# Altium footprint library AUDIO-SMD_PJ-328-5A2.PcbLib: 1 footprints
Each footprint in its own frame and in the unit in brackets; x right, y up, seen from the top. Pads: shape width x height; smd on the part's side, far side on the other; paste and mask are expansions set on the pad; w line width, h text height; cw(c..) or ccw(c..) is an arc to the next point about the centre after c.
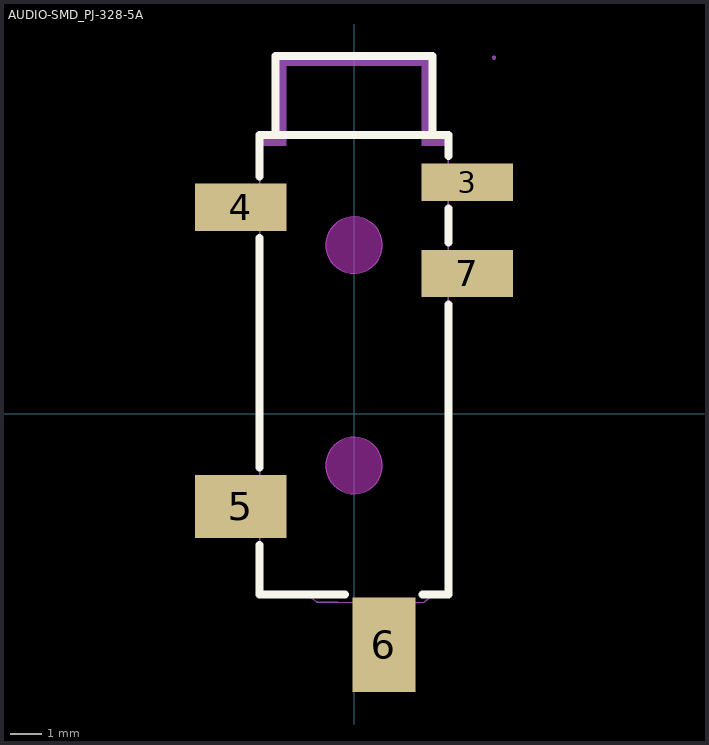
[diagram p0: the footprint, top view; thin cyan lines are the x and y axes]

## AUDIO-SMD_PJ-328-5A [mm]
pads (5):
  rect 2.9x1.2 smd paste+0 mask+0.051: 3(3.6,7.35)
  rect 2.9x1.5 smd paste+0 mask+0.051: 4(-3.6,6.55) 7(3.6,4.45)
  rect 2.9x2 smd paste+0 mask+0.051: 5(-3.6,-2.95)
  rect 2x3 smd paste+0 mask+0.051: 6(0.95,-7.35)
Top Overlay:
  lines w0.254: -3,-4.181 -3,-5.75 -0.281,-5.75 ; -3,-1.719 -3,5.569 ; -3,7.531 -3,8.85 3,8.85 3,8.181 ; -2.5,8.85 -2.5,11.35 2.5,11.35 2.5,8.85 ; 2.181,-5.75 3,-5.75 3,3.469 ; 3,5.431 3,6.519
Keep-Out Layer:
  board cut-out: 0.9,-1.65 0.9,-1.531 0.839,-1.303 0.72,-1.097 0.553,-0.93 0.347,-0.811 0.119,-0.75 -0.118,-0.75 -0.347,-0.811 -0.553,-0.93 -0.72,-1.097 -0.839,-1.302 -0.9,-1.531 -0.9,-1.65 -0.9,-1.768 -0.839,-1.997 -0.72,-2.203 -0.553,-2.37 -0.348,-2.489 -0.119,-2.55 0.118,-2.55 0.347,-2.489 0.553,-2.37 0.72,-2.203 0.839,-1.997 0.9,-1.768 0.9,-1.65
  board cut-out: 0.9,5.35 0.9,5.468 0.839,5.697 0.72,5.903 0.553,6.07 0.347,6.189 0.119,6.25 -0.118,6.25 -0.347,6.189 -0.553,6.07 -0.72,5.903 -0.839,5.698 -0.9,5.469 -0.9,5.35 -0.9,5.232 -0.839,5.003 -0.72,4.797 -0.553,4.63 -0.348,4.511 -0.119,4.45 0.118,4.45 0.347,4.511 0.553,4.63 0.72,4.797 0.839,5.003 0.9,5.232 0.9,5.35
Mechanical 1:
  circle w0.005: c0,-1.65 r0.9
  circle w0.005: c0,5.35 r0.9
Mechanical 6:
  region: 2.159,8.763 2.159,8.509 2.921,8.509 2.921,8.763
  region: -2.159,8.763 -2.921,8.763 -2.921,8.509 -2.159,8.509
  region: -2.159,11.303 2.159,11.303 2.159,11.049 -2.159,11.049
  region: 2.413,8.763 2.413,11.303 2.159,11.303 2.159,8.763
  region: -2.413,8.763 -2.413,11.303 -2.159,11.303 -2.159,8.763
Mechanical 15:
  region: 1.7,-8.198 0.2,-8.198 0.2,-6.198 1.7,-6.198
  region: -2.45,-2.251 -2.45,-3.751 -4.45,-3.751 -4.45,-2.251
  region: 2.45,3.894 2.45,4.894 4.45,4.894 4.45,3.894
  region: -2.45,6.999 -2.45,5.999 -4.45,5.999 -4.45,6.999
  region: 4.45,7.707 4.45,6.907 2.45,6.907 2.45,7.707
  region: 4.51,11.303 4.51,11.328 4.475,11.363 4.425,11.363 4.39,11.328 4.39,11.303 4.39,11.279 4.425,11.243 4.475,11.243 4.51,11.278 4.51,11.303
  lines w0.051: -3,-5.824 -1.467,-5.792 -1.176,-5.984 0.198,-6.007 0.199,-6.212 0.506,-6.211 1.442,-6.214 1.7,-6.203 1.704,-6.004 2.22,-5.998 2.459,-5.808 3,-5.824 3,8.776 2.498,8.798 2.505,11.294 -2.495,11.303 -2.5,8.798 -2.997,8.798 -3,-5.824